# Altium footprint library PcbLib1.PcbLib: 13 footprints
Each footprint in its own frame and in the unit in brackets; x right, y up, seen from the top. Pads: shape width x height; smd on the part's side, far side on the other; paste and mask are expansions set on the pad; w line width, h text height; cw(c..) or ccw(c..) is an arc to the next point about the centre after c.
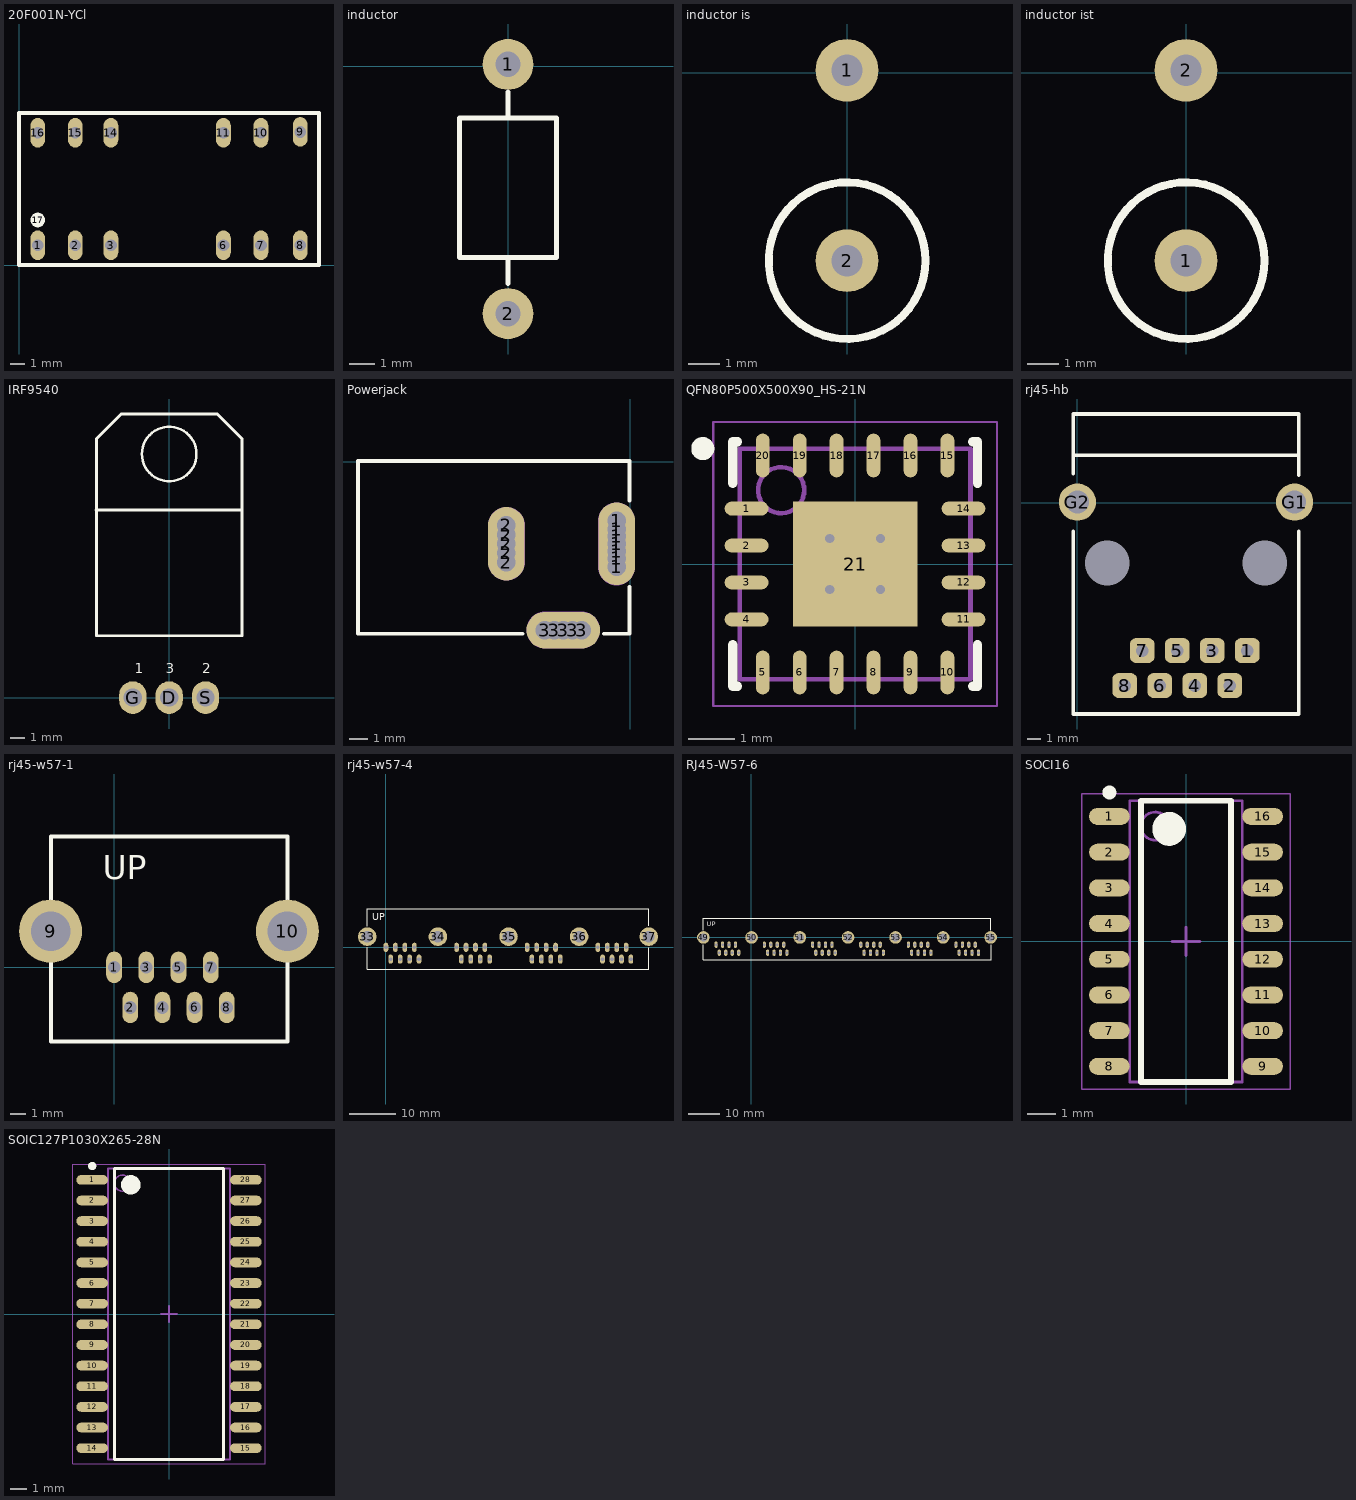
[diagram p0: the footprints below, top view; thin cyan lines are the x and y axes]

## 20F001N-YCl [mm]
pads (13):
  oval 1x2 hole 0.8: 1(1.27,1.34) 2(3.81,1.34) 3(6.223,1.34) 6(13.843,1.34) 7(16.383,1.34) 8(19.05,1.34) 9(19.05,9.017) 10(16.383,8.96) 11(13.843,8.96) 14(6.223,8.96) 15(3.81,8.96) 16(1.27,8.96)
  round 1 on Top Overlay: 17(1.27,3.048)
Top Overlay:
  lines w0.254: 0,0 0,10.3 20.32,10.3 20.32,0 0,0

## inductor [mm]
pads (2):
  round 2 hole 1: 1(0,0.074) 2(0,-9.726)
Top Overlay:
  lines w0.2: 0,-8.542 0,-7.526 ; 0,-2.026 0,-1.01 ; -1.905,-7.526 1.905,-7.526 1.905,-2.026 -1.905,-2.026 -1.905,-7.526

## inductor is [mm]
pads (2):
  round 2 hole 1: 1(0,0.074) 2(0,-6)
Top Overlay:
  circle w0.254: c0,-6 r2.5

## inductor ist [mm]
pads (2):
  round 2 hole 1: 1(0,-6) 2(0,0.074)
Top Overlay:
  circle w0.254: c0,-6 r2.5

## IRF9540 [mil] "Right Angle"
height 177.17
pads (3):
  oval 75x90 hole 50: D(0,0) G(-100,0) S(100,0)
Top Overlay:
  circle w7: c0,670 r75
  lines w7.87: -201,516.22 199,516.22 ; -200,170 -200,578.74 -200,712 -132,780 132,780 200,712 200,170 -200,170
  text "3" at -10,66.93 h27.56
  text "2" at 91,66.93 h27.56
  text "1" at -95,66.93 h27.56
3D body "78XXCV.STEP": height 175, standoff -112.5, extent -198,-8 202,776

## Powerjack [mm]
pads (17):
  round 1.5 hole 1: 1(-0.731,-5.711) 1(-0.731,-5.261) 1(-0.731,-4.861) 1(-0.731,-4.061) 1(-0.731,-3.661) 1(-0.731,-3.211) 2(-6.731,-5.461) 2(-6.731,-3.461) 2(-6.731,-4.961) 2(-6.731,-3.961) 3(-4.631,-9.161) 3(-4.131,-9.161) 3(-3.131,-9.161) 3(-2.631,-9.161)
  oval 2x4.5 hole 1: 1(-0.731,-4.461)
  oval 2x4 hole 1: 2(-6.731,-4.461)
  oval 4x2 hole 1: 3(-3.631,-9.161)
Top Overlay:
  lines w0.2: -5.831,-9.361 -14.8,-9.361 -14.8,0.039 -0.031,0.039 -0.031,-2.111 ; -1.431,-9.361 -0.031,-9.361 -0.031,-6.811
Mechanical 1:
  lines w1: -6.731,-5.461 -6.731,-3.461 ; -4.631,-9.161 -2.631,-9.161 ; -0.731,-5.711 -0.731,-3.211
Mechanical 2:
  lines w2.016: -6.731,-5.461 -6.731,-3.461 ; -4.631,-9.161 -2.631,-9.161 ; -0.731,-5.711 -0.731,-3.211
3D body "SW3dPS-PowerJack-2.5x5.7mm.STEP": height 11, standoff -3.5, extent -14.986,-9.399 0.214,0.001

## QFN80P500X500X90_HS-21N [mm] "QFN, 20-Leads, Body 5.00x5.00mm, Pitch 0.80mm, Thermal Pad 2.70x2.70mm, IPC Medium Density"
height 0.9
pads (21):
  oval 0.95x0.3 smd: 1(-2.35,1.2) 2(-2.35,0.4) 3(-2.35,-0.4) 4(-2.35,-1.2) 11(2.35,-1.2) 12(2.35,-0.4) 13(2.35,0.4) 14(2.35,1.2)
  oval 0.3x0.95 smd: 5(-2,-2.35) 6(-1.2,-2.35) 7(-0.4,-2.35) 8(0.4,-2.35) 9(1.2,-2.35) 10(2,-2.35) 15(2,2.35) 16(1.2,2.35) 17(0.4,2.35) 18(-0.4,2.35) 19(-1.2,2.35) 20(-2,2.35)
  rect 2.7x2.7 smd: 21(0,0)
via -0.55,0.55 diameter 0.5 hole 0.2
via 0.55,0.55 diameter 0.5 hole 0.2
via -0.55,-0.55 diameter 0.5 hole 0.2
via 0.55,-0.55 diameter 0.5 hole 0.2
Top Overlay:
  circle w0.25: c-3.3,2.5 r0.125
  lines w0.2: -2.65,-1.75 -2.65,-2.65 -2.55,-2.65 ; -2.65,1.75 -2.65,2.65 -2.55,2.65 ; 2.55,-2.65 2.65,-2.65 2.65,-1.75 ; 2.55,2.65 2.65,2.65 2.65,1.75
Mechanical 13:
  circle w0.1: c-1.6,1.6 r0.5
  lines w0.1: -2.5,-2.5 -2.5,2.5 2.5,2.5 2.5,-2.5 -2.5,-2.5
Mechanical 15:
  lines w0.05: -3.075,-3.075 -3.075,3.075 3.075,3.075 3.075,-3.075 -3.075,-3.075
  lines w0.1: -0.5,0 0.5,0 ; 0,-0.5 0,0.5
3D body: height 0.9, standoff 0, extent -2.5,-2.5 2.5,2.5

## rj45-hb [mm]
pads (12):
  rrect50% 1.8x1.8 hole 0.9: 1(12.319,-10.714) 2(11.049,-13.254) 3(9.779,-10.714) 4(8.509,-13.254) 5(7.239,-10.714) 6(5.969,-13.254) 7(4.699,-10.714) 8(3.429,-13.254)
  round 2.7 hole 1.65: G1(15.749,0.046) G2(-0.001,0.046)
  rrect50% 1.8x1.8 hole 3.25: ""(2.159,-4.365) ""(13.589,-4.365)
Top Overlay:
  lines w0.254: -0.316,-2.081 -0.316,-15.315 16.064,-15.315 16.064,-2.081 ; -0.316,2.11 -0.316,6.436 16.064,6.436 16.064,1.983 ; -0.316,3.436 16.064,3.436

## rj45-w57-1 [mm]
pads (10):
  oval 1x2 hole 0.8: 1(0,0) 2(1.02,-2.54) 3(2.04,0) 4(3.06,-2.54) 5(4.08,0) 6(5.1,-2.54) 7(6.12,0) 8(7.14,-2.54)
  round 4 hole 2.5: 9(-4.03,2.3) 10(10.986,2.3)
Top Overlay:
  lines w0.254: -4.014,-4.7 10.986,-4.7 10.986,8.3 -4.014,8.3 -4.014,-4.7
  text "UP" at -0.728,5.602 h1.52

## rj45-w57-4 [mm]
pads (37):
  oval 1x2 hole 0.8: 1(0,0) 2(1.02,-2.54) 3(2.04,0) 4(3.06,-2.54) 5(4.08,0) 6(5.1,-2.54) 7(6.12,0) 8(7.14,-2.54) 9(15.24,0) 10(16.26,-2.54) 11(17.28,0) 12(18.3,-2.54) 13(19.32,0) 14(20.34,-2.54) 15(21.36,0) 16(22.38,-2.54) 17(30.48,0) 18(31.5,-2.54) 19(32.52,0) 20(33.54,-2.54) 21(34.56,0) 22(35.58,-2.54) 23(36.6,0) 24(37.62,-2.54) 25(45.72,0) 26(46.74,-2.54) 27(47.76,0) 28(48.78,-2.54) 29(49.8,0) 30(50.82,-2.54) 31(51.84,0) 32(52.86,-2.54)
  round 4 hole 2.5: 33(-4.03,2.3) 34(11.21,2.3) 35(26.45,2.3) 36(41.69,2.3) 37(56.706,2.3)
Top Overlay:
  lines w0.254: -4.014,0.05 -4.014,-4.7 56.706,-4.7 56.706,-0.063 ; -4.014,4.572 -4.014,8.3 56.706,8.3 56.706,4.635
  text "UP" at -2.921,5.842 h1.52

## RJ45-W57-6 [mm]
pads (55):
  oval 1x2 hole 0.8: 1(-11.176,-2.413) 2(-10.156,-4.953) 3(-9.136,-2.413) 4(-8.116,-4.953) 5(-7.096,-2.413) 6(-6.076,-4.953) 7(-5.056,-2.413) 8(-4.036,-4.953) 9(4.064,-2.413) 10(5.084,-4.953) 11(6.104,-2.413) 12(7.124,-4.953) 13(8.144,-2.413) 14(9.164,-4.953) 15(10.184,-2.413) 16(11.204,-4.953) 17(19.304,-2.413) 18(20.324,-4.953) 19(21.344,-2.413) 20(22.364,-4.953) 21(23.384,-2.413) 22(24.404,-4.953) 23(25.424,-2.413) 24(26.444,-4.953) 25(34.544,-2.413) 26(35.564,-4.953) 27(36.584,-2.413) 28(37.604,-4.953) 29(38.624,-2.413) 30(39.644,-4.953) 31(40.664,-2.413) 32(41.684,-4.953) 33(49.56,-2.413) 34(50.58,-4.953) 35(51.6,-2.413) 36(52.62,-4.953) 37(53.64,-2.413) 38(54.66,-4.953) 39(55.68,-2.413) 40(56.7,-4.953) 41(64.576,-2.413) 42(65.596,-4.953) 43(66.616,-2.413) 44(67.636,-4.953) 45(68.656,-2.413) 46(69.676,-4.953) 47(70.696,-2.413) 48(71.716,-4.953)
  round 4 hole 2.5: 49(-15.206,-0.113) 50(0.034,-0.113) 51(15.274,-0.113) 52(30.514,-0.113) 53(45.53,-0.113) 54(60.546,-0.113) 55(75.562,-0.113)
Top Overlay:
  lines w0.254: -15.19,-2.363 -15.19,-7.113 75.819,-7.113 75.819,-2.476 ; -15.19,2.159 -15.19,5.887 75.565,5.887 75.565,2.222
  text "UP" at -14.097,3.429 h1.52

## SOCI16 [mm]
pads (16):
  oval 1.45x0.6 smd: 1(-2.725,4.445) 2(-2.725,3.175) 3(-2.725,1.905) 4(-2.725,0.635) 5(-2.725,-0.635) 6(-2.725,-1.905) 7(-2.725,-3.175) 8(-2.725,-4.445) 9(2.725,-4.445) 10(2.725,-3.175) 11(2.725,-1.905) 12(2.725,-0.635) 13(2.725,0.635) 14(2.725,1.905) 15(2.725,3.175) 16(2.725,4.445)
Top Overlay:
  circle w0.6: c-0.6,4 r0.3
  circle w0.25: c-2.725,5.295 r0.125
  lines w0.2: -1.6,-5 1.6,-5 1.6,5 -1.6,5 -1.6,-5
Mechanical 13:
  circle w0.1: c-1.1,4.1 r0.5
  lines w0.1: -2,-5 2,-5 2,5 -2,5 -2,-5
Mechanical 15:
  lines w0.05: -3.7,-5.25 3.7,-5.25 3.7,5.25 -3.7,5.25 -3.7,-5.25
  lines w0.1: -0.5,0 0.5,0 ; 0,-0.5 0,0.5
3D body: height 2.65, standoff 0.1, extent -2,-5 2,5

## SOIC127P1030X265-28N [mm] "SOIC, 28-Leads, Body 17.90x7.50mm, Pitch 1.27mm, IPC Medium Density"
height 2.65
pads (28):
  oval 1.95x0.6 smd: 1(-4.725,8.255) 2(-4.725,6.985) 3(-4.725,5.715) 4(-4.725,4.445) 5(-4.725,3.175) 6(-4.725,1.905) 7(-4.725,0.635) 8(-4.725,-0.635) 9(-4.725,-1.905) 10(-4.725,-3.175) 11(-4.725,-4.445) 12(-4.725,-5.715) 13(-4.725,-6.985) 14(-4.725,-8.255) 15(4.725,-8.255) 16(4.725,-6.985) 17(4.725,-5.715) 18(4.725,-4.445) 19(4.725,-3.175) 20(4.725,-1.905) 21(4.725,-0.635) 22(4.725,0.635) 23(4.725,1.905) 24(4.725,3.175) 25(4.725,4.445) 26(4.725,5.715) 27(4.725,6.985) 28(4.725,8.255)
Top Overlay:
  circle w0.25: c-4.725,9.105 r0.125
  circle w0.6: c-2.35,7.95 r0.3
  lines w0.2: -3.35,-8.95 -3.35,8.95 3.35,8.95 3.35,-8.95 -3.35,-8.95
Mechanical 13:
  circle w0.1: c-2.85,8.05 r0.5
  lines w0.1: -3.75,-8.95 -3.75,8.95 3.75,8.95 3.75,-8.95 -3.75,-8.95
Mechanical 15:
  lines w0.05: -5.925,-9.2 -5.925,9.2 5.925,9.2 5.925,-9.2 -5.925,-9.2
  lines w0.1: -0.5,0 0.5,0 ; 0,-0.5 0,0.5
3D body: height 2.65, standoff 0.1, extent -3.75,-8.95 3.75,8.95